# Altium schematic symbol library RGB_LED.SchLib: 1 symbol
Pins are listed as number, name and electrical type; pins without a type are passive.

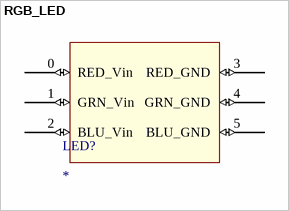
[diagram p0: symbol RGB_LED]

## RGB_LED
designator LED?
footprint BIG_LED (SMT RGB LED 6 PIN)
pins: 0 RED_Vin (io), 1 GRN_Vin (io), 2 BLU_Vin (io), 3 RED_GND (io), 4 GRN_GND (io), 5 BLU_GND (io)